# EAGLE library part PE4201_SO08 (library PFC-ICs)
High precision CRM- PFC- Controller very low supply current, internal reference
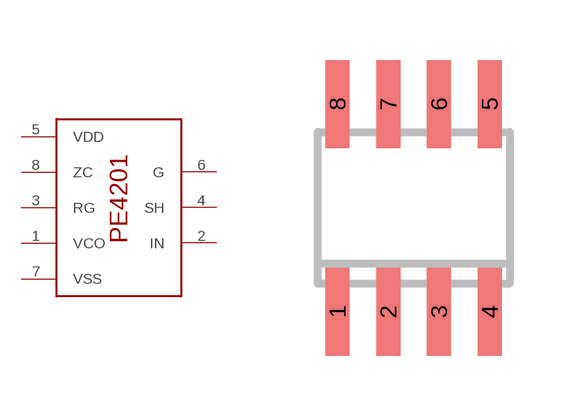
[diagram p0: symbol with the pads of PE4201_SO08; footprint PE4201_SO08]

Designator prefix -

## PE4201_SO08  [PE4201_SO08]
1  VCO
2  IN
3  RG
4  SH
5  VDD
6  G
7  VSS
8  ZC

## Footprint PE4201_SO08 (pad centres in mm)
smd 0.6 x 2.2: 1 -1.905,-2.6; 2 -0.635,-2.6; 3 0.635,-2.6; 4 1.905,-2.6; 5 1.905,2.6; 6 0.635,2.6; 7 -0.635,2.6; 8 -1.905,2.6